# Altium footprint library Flex_L_0603(1608).PcbLib: 1 footprints
Each footprint in its own frame and in the unit in brackets; x right, y up, seen from the top. Pads: shape width x height; smd on the part's side, far side on the other; paste and mask are expansions set on the pad; w line width, h text height; cw(c..) or ccw(c..) is an arc to the next point about the centre after c.
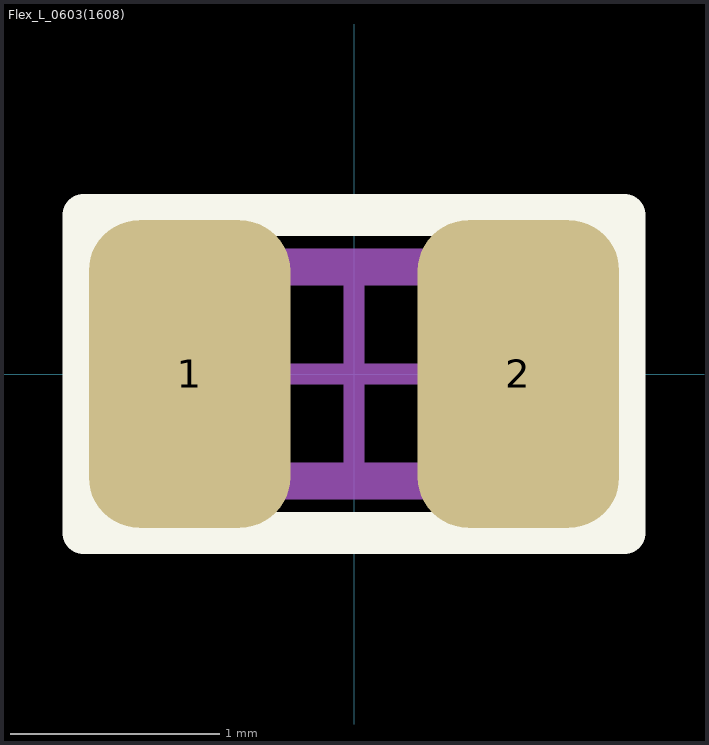
[diagram p0: the footprint, top view; thin cyan lines are the x and y axes]

## Flex_L_0603(1608) [mil] "Chip Inductor, Body 1.6x0.8mm, Flex"
height 27.95
pads (2):
  rrect50% 38x58 smd paste-7.87 mask-4.02: 1(-31,0) 2(31,0)
Top Overlay:
  lines w7.87: -51,-30 51,-30 51,30 -51,30 -51,-30
Mechanical 13:
  lines w3.94: -34.45,-18.7 -34.45,18.7 34.45,18.7 34.45,-18.7 -34.45,-18.7
Mechanical 15:
  lines w3.94: -18.7,0 18.7,0 ; 0,-18.7 0,18.7 ; -51,-30 -51,21.65 51,21.65 51,-30 -51,-30 ; -47.24,-21.65 -47.24,30 47.24,30 47.24,-21.65 -47.24,-21.65
3D body: height 27.95, standoff 0, extent -34.45,-18.7 34.45,18.7